# EAGLE library part LM2675 (library IC - PMIC - Vreg - DC-DC)
LM2675 SIMPLE SWITCHER ® Power Converter High Efficiency 1A Step-Down Voltage Regulator Source: Data sheet <http://datasheet.octopart.com/LM2675N-5.0/NOPB-National-Semiconductor-datasheet-14587.pdf>
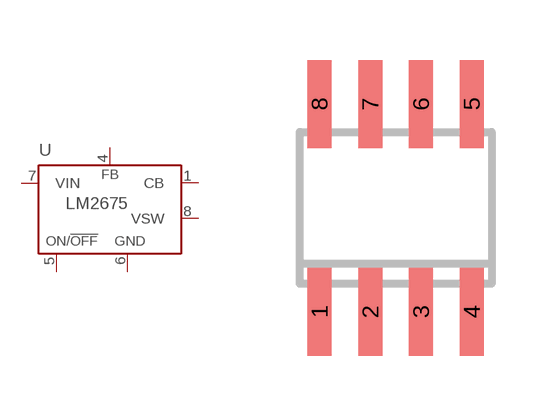
[diagram p3: symbol with the pads of SO08; footprint SO08]

Designator prefix U

## LM2675M  [SO08]
1  CB
4  FB
5  ON/!OFF
6  GND
7  VIN
8  VSW

## Footprint SO08 (pad centres in mm)
Small Outline Package 8 NS Package M08A
smd 0.6 x 2.2: 1 -1.905,-2.6; 2 -0.635,-2.6; 3 0.635,-2.6; 4 1.905,-2.6; 5 1.905,2.6; 6 0.635,2.6; 7 -0.635,2.6; 8 -1.905,2.6